# Altium footprint library LQFP0.50P16.0X16.0X1.4-80A.PcbLib: 3 footprints
Each footprint in its own frame and in the unit in brackets; x right, y up, seen from the top. Pads: shape width x height; smd on the part's side, far side on the other; paste and mask are expansions set on the pad; w line width, h text height; cw(c..) or ccw(c..) is an arc to the next point about the centre after c.
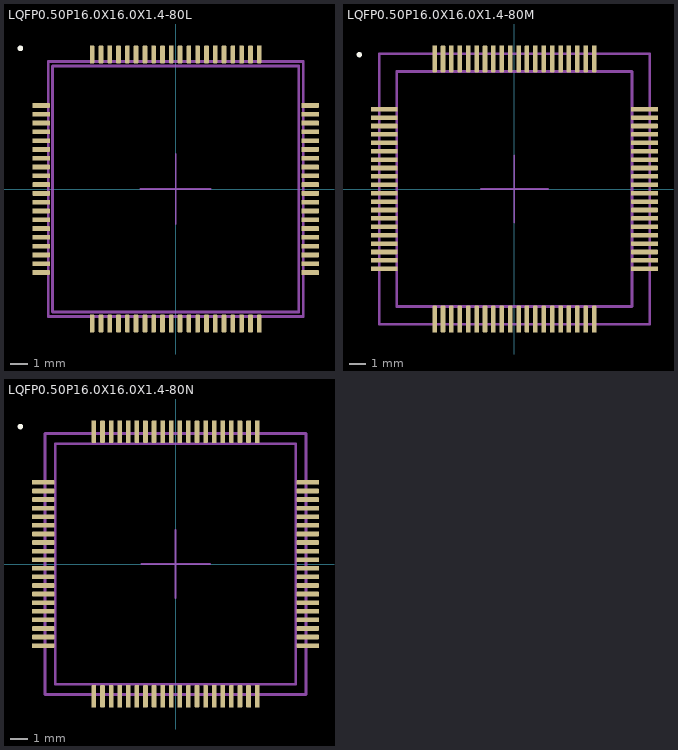
[diagram p0: the footprints below, top view; thin cyan lines are the x and y axes]

## LQFP0.50P16.0X16.0X1.4-80L [mm] "LQFP 80 14x14x1.4 mm"
height 1.4
pads (80):
  rrect25% 1x0.27 smd: 1(-7.65,4.75) 2(-7.65,4.25) 3(-7.65,3.75) 4(-7.65,3.25) 5(-7.65,2.75) 6(-7.65,2.25) 7(-7.65,1.75) 8(-7.65,1.25) 9(-7.65,0.75) 10(-7.65,0.25) 11(-7.65,-0.25) 12(-7.65,-0.75) 13(-7.65,-1.25) 14(-7.65,-1.75) 15(-7.65,-2.25) 16(-7.65,-2.75) 17(-7.65,-3.25) 18(-7.65,-3.75) 19(-7.65,-4.25) 20(-7.65,-4.75) 41(7.65,-4.75) 42(7.65,-4.25) 43(7.65,-3.75) 44(7.65,-3.25) 45(7.65,-2.75) 46(7.65,-2.25) 47(7.65,-1.75) 48(7.65,-1.25) 49(7.65,-0.75) 50(7.65,-0.25) 51(7.65,0.25) 52(7.65,0.75) 53(7.65,1.25) 54(7.65,1.75) 55(7.65,2.25) 56(7.65,2.75) 57(7.65,3.25) 58(7.65,3.75) 59(7.65,4.25) 60(7.65,4.75)
  rrect25% 0.27x1 smd: 21(-4.75,-7.65) 22(-4.25,-7.65) 23(-3.75,-7.65) 24(-3.25,-7.65) 25(-2.75,-7.65) 26(-2.25,-7.65) 27(-1.75,-7.65) 28(-1.25,-7.65) 29(-0.75,-7.65) 30(-0.25,-7.65) 31(0.25,-7.65) 32(0.75,-7.65) 33(1.25,-7.65) 34(1.75,-7.65) 35(2.25,-7.65) 36(2.75,-7.65) 37(3.25,-7.65) 38(3.75,-7.65) 39(4.25,-7.65) 40(4.75,-7.65) 61(4.75,7.65) 62(4.25,7.65) 63(3.75,7.65) 64(3.25,7.65) 65(2.75,7.65) 66(2.25,7.65) 67(1.75,7.65) 68(1.25,7.65) 69(0.75,7.65) 70(0.25,7.65) 71(-0.25,7.65) 72(-0.75,7.65) 73(-1.25,7.65) 74(-1.75,7.65) 75(-2.25,7.65) 76(-2.75,7.65) 77(-3.25,7.65) 78(-3.75,7.65) 79(-4.25,7.65) 80(-4.75,7.65)
Top Overlay:
  circle w0.16: c-8.83,8 r0.08
Top Component Center:
  lines w0.1: -2,0 2,0 ; 0,-2 0,2
Top Courtyard:
  lines w0.16: -7.25,-7.25 7.25,-7.25 7.25,7.25 -7.25,7.25 -7.25,-7.25
Top Assembly:
  lines w0.16: -7,-7 7,-7 7,7 -7,7 -7,-7
3D body "LQFP0.50P16.0X16.0X1.4-80L.STEP": height 1, standoff 0

## LQFP0.50P16.0X16.0X1.4-80M [mm] "LQFP 80 14x14x1.4 mm"
height 1.4
pads (80):
  rrect25% 1.6x0.27 smd: 1(-7.75,4.75) 2(-7.75,4.25) 3(-7.75,3.75) 4(-7.75,3.25) 5(-7.75,2.75) 6(-7.75,2.25) 7(-7.75,1.75) 8(-7.75,1.25) 9(-7.75,0.75) 10(-7.75,0.25) 11(-7.75,-0.25) 12(-7.75,-0.75) 13(-7.75,-1.25) 14(-7.75,-1.75) 15(-7.75,-2.25) 16(-7.75,-2.75) 17(-7.75,-3.25) 18(-7.75,-3.75) 19(-7.75,-4.25) 20(-7.75,-4.75) 41(7.75,-4.75) 42(7.75,-4.25) 43(7.75,-3.75) 44(7.75,-3.25) 45(7.75,-2.75) 46(7.75,-2.25) 47(7.75,-1.75) 48(7.75,-1.25) 49(7.75,-0.75) 50(7.75,-0.25) 51(7.75,0.25) 52(7.75,0.75) 53(7.75,1.25) 54(7.75,1.75) 55(7.75,2.25) 56(7.75,2.75) 57(7.75,3.25) 58(7.75,3.75) 59(7.75,4.25) 60(7.75,4.75)
  rrect25% 0.27x1.6 smd: 21(-4.75,-7.75) 22(-4.25,-7.75) 23(-3.75,-7.75) 24(-3.25,-7.75) 25(-2.75,-7.75) 26(-2.25,-7.75) 27(-1.75,-7.75) 28(-1.25,-7.75) 29(-0.75,-7.75) 30(-0.25,-7.75) 31(0.25,-7.75) 32(0.75,-7.75) 33(1.25,-7.75) 34(1.75,-7.75) 35(2.25,-7.75) 36(2.75,-7.75) 37(3.25,-7.75) 38(3.75,-7.75) 39(4.25,-7.75) 40(4.75,-7.75) 61(4.75,7.75) 62(4.25,7.75) 63(3.75,7.75) 64(3.25,7.75) 65(2.75,7.75) 66(2.25,7.75) 67(1.75,7.75) 68(1.25,7.75) 69(0.75,7.75) 70(0.25,7.75) 71(-0.25,7.75) 72(-0.75,7.75) 73(-1.25,7.75) 74(-1.75,7.75) 75(-2.25,7.75) 76(-2.75,7.75) 77(-3.25,7.75) 78(-3.75,7.75) 79(-4.25,7.75) 80(-4.75,7.75)
Top Overlay:
  circle w0.16: c-9.23,8 r0.08
Top Component Center:
  lines w0.1: -2,0 2,0 ; 0,-2 0,2
Top Courtyard:
  lines w0.16: -8.05,-8.05 8.05,-8.05 8.05,8.05 -8.05,8.05 -8.05,-8.05
Top Assembly:
  lines w0.16: -7,-7 7,-7 7,7 -7,7 -7,-7
3D body "LQFP0.50P16.0X16.0X1.4-80M.STEP": height 1, standoff 0

## LQFP0.50P16.0X16.0X1.4-80N [mm] "LQFP 80 14x14x1.4 mm"
height 1.4
pads (80):
  rrect25% 1.3x0.27 smd: 1(-7.7,4.75) 2(-7.7,4.25) 3(-7.7,3.75) 4(-7.7,3.25) 5(-7.7,2.75) 6(-7.7,2.25) 7(-7.7,1.75) 8(-7.7,1.25) 9(-7.7,0.75) 10(-7.7,0.25) 11(-7.7,-0.25) 12(-7.7,-0.75) 13(-7.7,-1.25) 14(-7.7,-1.75) 15(-7.7,-2.25) 16(-7.7,-2.75) 17(-7.7,-3.25) 18(-7.7,-3.75) 19(-7.7,-4.25) 20(-7.7,-4.75) 41(7.7,-4.75) 42(7.7,-4.25) 43(7.7,-3.75) 44(7.7,-3.25) 45(7.7,-2.75) 46(7.7,-2.25) 47(7.7,-1.75) 48(7.7,-1.25) 49(7.7,-0.75) 50(7.7,-0.25) 51(7.7,0.25) 52(7.7,0.75) 53(7.7,1.25) 54(7.7,1.75) 55(7.7,2.25) 56(7.7,2.75) 57(7.7,3.25) 58(7.7,3.75) 59(7.7,4.25) 60(7.7,4.75)
  rrect25% 0.27x1.3 smd: 21(-4.75,-7.7) 22(-4.25,-7.7) 23(-3.75,-7.7) 24(-3.25,-7.7) 25(-2.75,-7.7) 26(-2.25,-7.7) 27(-1.75,-7.7) 28(-1.25,-7.7) 29(-0.75,-7.7) 30(-0.25,-7.7) 31(0.25,-7.7) 32(0.75,-7.7) 33(1.25,-7.7) 34(1.75,-7.7) 35(2.25,-7.7) 36(2.75,-7.7) 37(3.25,-7.7) 38(3.75,-7.7) 39(4.25,-7.7) 40(4.75,-7.7) 61(4.75,7.7) 62(4.25,7.7) 63(3.75,7.7) 64(3.25,7.7) 65(2.75,7.7) 66(2.25,7.7) 67(1.75,7.7) 68(1.25,7.7) 69(0.75,7.7) 70(0.25,7.7) 71(-0.25,7.7) 72(-0.75,7.7) 73(-1.25,7.7) 74(-1.75,7.7) 75(-2.25,7.7) 76(-2.75,7.7) 77(-3.25,7.7) 78(-3.75,7.7) 79(-4.25,7.7) 80(-4.75,7.7)
Top Overlay:
  circle w0.16: c-9.03,8 r0.08
Top Component Center:
  lines w0.1: -2,0 2,0 ; 0,-2 0,2
Top Courtyard:
  lines w0.16: -7.6,-7.6 7.6,-7.6 7.6,7.6 -7.6,7.6 -7.6,-7.6
Top Assembly:
  lines w0.16: -7,-7 7,-7 7,7 -7,7 -7,-7
3D body "LQFP0.50P16.0X16.0X1.4-80N.STEP": height 1, standoff 0